# Altium footprint library PcbLib1.PcbLib: 21 footprints (part 1 of 2)
Each footprint in its own frame and in the unit in brackets; x right, y up, seen from the top. Pads: shape width x height; smd on the part's side, far side on the other; paste and mask are expansions set on the pad; w line width, h text height; cw(c..) or ccw(c..) is an arc to the next point about the centre after c.
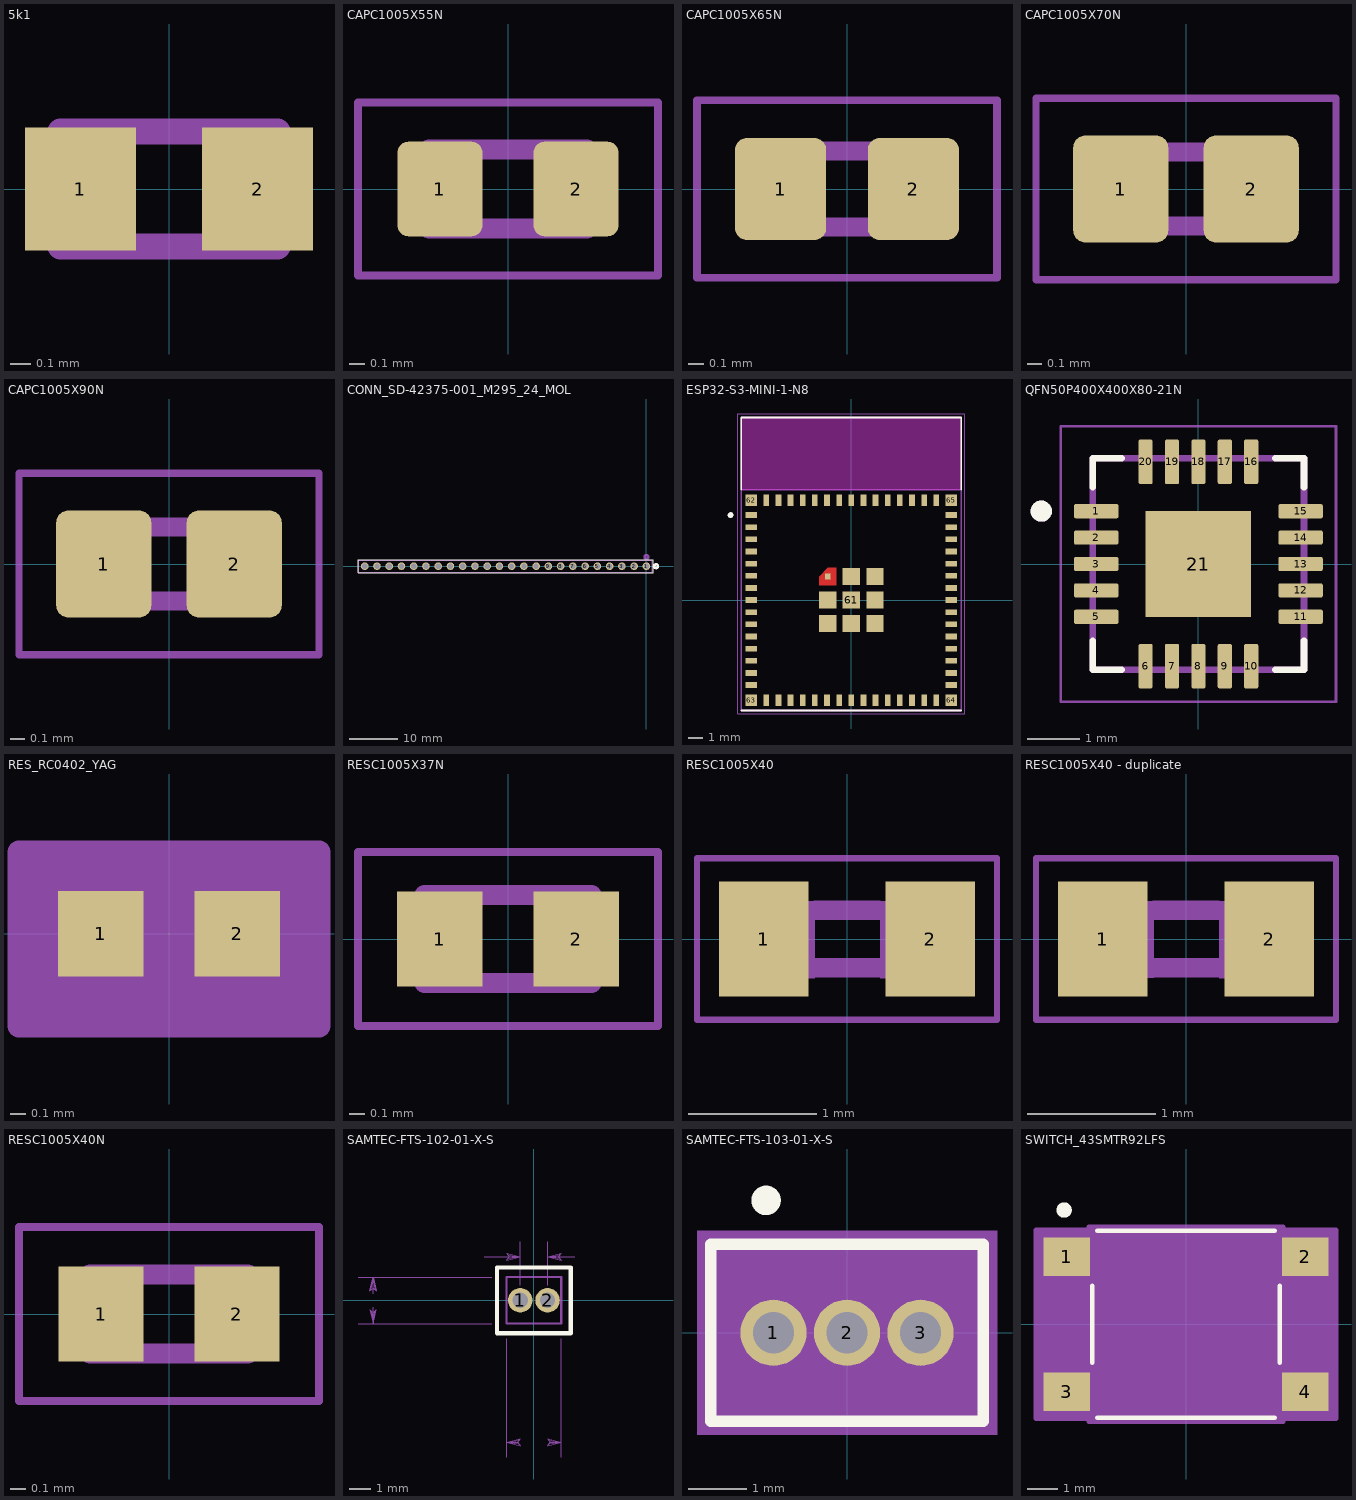
[diagram p0: the footprints below, top view; thin cyan lines are the x and y axes]

## 5k1 [mm]
pads (2):
  rect 0.54x0.6 smd: 1(-0.432,0) 2(0.432,0)
Mechanical 13:
  lines w0.127: -0.53,-0.28 -0.53,0.28 0.53,0.28 0.53,-0.28 -0.53,-0.28
3D body "step_temp.STEP": height 0.37, standoff 0, extent -0.5,-0.25 0.5,0.25

## CAPC1005X55N [mm]
pads (2):
  rrect25% 0.54x0.6 smd: 1(-0.432,0) 2(0.432,0)
Mechanical 13:
  lines w0.127: -0.5,-0.25 0.5,-0.25 0.5,0.25 -0.5,0.25 -0.5,-0.25
Mechanical 15:
  lines w0.05: -0.952,-0.55 0.952,-0.55 0.952,0.55 -0.952,0.55 -0.952,-0.55
3D body "step_temp.STEP": height 0.55, standoff 0, extent -0.5,-0.25 0.5,0.25

## CAPC1005X65N [mm]
pads (2):
  rrect25% 0.6x0.67 smd: 1(-0.437,0) 2(0.437,0)
Mechanical 13:
  lines w0.127: -0.5,-0.25 -0.5,0.25 0.5,0.25 0.5,-0.25 -0.5,-0.25
Mechanical 15:
  lines w0.05: -0.987,-0.585 -0.987,0.585 0.987,0.585 0.987,-0.585 -0.987,-0.585
3D body "step_temp.STEP": height 0.65, standoff 0, extent -0.5,-0.25 0.5,0.25

## CAPC1005X70N [mm]
pads (2):
  rrect25% 0.64x0.72 smd paste+0 mask+0.102: 1(-0.439,0) 2(0.439,0)
Mechanical 13:
  lines w0.127: -0.5,-0.25 -0.5,0.25 0.5,0.25 0.5,-0.25 -0.5,-0.25
Mechanical 15:
  lines w0.05: -1.009,-0.61 -1.009,0.61 1.009,0.61 1.009,-0.61 -1.009,-0.61
3D body "step_temp.STEP": height 0.7, standoff 0, extent -0.5,-0.25 0.5,0.25

## CAPC1005X90N [mm]
pads (2):
  rrect25% 0.64x0.72 smd: 1(-0.439,0) 2(0.439,0)
Mechanical 13:
  lines w0.127: -0.5,-0.25 -0.5,0.25 0.5,0.25 0.5,-0.25 -0.5,-0.25
Mechanical 15:
  lines w0.05: -1.009,-0.61 -1.009,0.61 1.009,0.61 1.009,-0.61 -1.009,-0.61
3D body "step_temp.STEP": height 0.9, standoff 0, extent -0.5,-0.25 0.5,0.25

## CONN_SD-42375-001_M295_24_MOL [mil]
pads (24):
  round 62 hole 42: 1(0,0) 2(-100,0) 3(-200,0) 4(-300,0) 5(-400,0) 6(-500,0) 7(-600,0) 8(-700,0) 9(-800,0) 10(-900,0) 11(-1000,0) 12(-1100,0) 13(-1200,0) 14(-1300,0) 15(-1400,0) 16(-1500,0) 17(-1600,0) 18(-1700,0) 19(-1800,0) 20(-1900,0) 21(-2000,0) 22(-2100,0) 23(-2200,0) 24(-2300,0)
Top Overlay:
  lines w6: -2355,-54 -2355,54 55,54 55,-54 -2355,-54
  lines w20: 65,0 cw(c80,0) 95,0 cw(c80,0) 65,0
Bottom Overlay:
  lines w20: 65,0 cw(c80,0) 95,0 cw(c80,0) 65,0
Mechanical 13:
  lines w6: -2350,-49 -2350,49 50,49 50,-49 -2350,-49
  lines w20: -15,75 cw(c0,75) 15,75 cw(c0,75) -15,75
3D body "022284245.stp": height 387, standoff -118, extent -2350,-48 50,50

## ESP32-S3-MINI-1-N8 [mm]
height 2.55
pads (73):
  rect 0.8x0.4 smd: 1(-7,5.95) 2(-7,5.1) 3(-7,4.25) 4(-7,3.4) 5(-7,2.55) 6(-7,1.7) 7(-7,0.85) 8(-7,0) 9(-7,-0.85) 10(-7,-1.7) 11(-7,-2.55) 12(-7,-3.4) 13(-7,-4.25) 14(-7,-5.1) 15(-7,-5.95) 31(7,-5.95) 32(7,-5.1) 33(7,-4.25) 34(7,-3.4) 35(7,-2.55) 36(7,-1.7) 37(7,-0.85) 38(7,0) 39(7,0.85) 40(7,1.7) 41(7,2.55) 42(7,3.4) 43(7,4.25) 44(7,5.1) 45(7,5.95)
  rect 0.4x0.8 smd: 16(-5.95,-7) 17(-5.1,-7) 18(-4.25,-7) 19(-3.4,-7) 20(-2.55,-7) 21(-1.7,-7) 22(-0.85,-7) 23(0,-7) 24(0.85,-7) 25(1.7,-7) 26(2.55,-7) 27(3.4,-7) 28(4.25,-7) 29(5.1,-7) 30(5.95,-7) 46(5.95,7) 47(5.1,7) 48(4.25,7) 49(3.4,7) 50(2.55,7) 51(1.7,7) 52(0.85,7) 53(0,7) 54(-0.85,7) 55(-1.7,7) 56(-2.55,7) 57(-3.4,7) 58(-4.25,7) 59(-5.1,7) 60(-5.95,7)
  rect 1.2x1.2 smd: 61(0,0) 61_2(0,1.65) 61_3(1.65,1.65) 61_4(1.65,0) 61_5(1.65,-1.65) 61_6(0,-1.65) 61_7(-1.65,-1.65) 61_8(-1.65,0)
  rect 0.4x0.4 smd paste-1 mask+0: 61_1(-1.65,1.65)
  rect 0.8x0.8 smd: 62(-7,7) 63(-7,-7) 64(7,-7) 65(7,7)
Top Layer:
  region: -1.05,1.05 -2.25,1.05 -2.25,1.65 -1.65,2.25 -1.05,2.25
Top Overlay:
  circle w0.2: c-8.45,5.95 r0.1
  lines w0.127: -7.7,-7.725 7.7,-7.725 ; -7.7,7.725 -7.7,12.775 7.7,12.775 7.7,7.725
Top Paste:
  region: -1.05,1.05 -2.25,1.05 -2.25,1.65 -1.65,2.25 -1.05,2.25
Top Solder:
  region: -0.95,0.95 -2.35,0.95 -2.35,1.7 -1.7,2.35 -0.95,2.35
Keep-Out Layer:
  region: 7.7,7.725 -7.7,7.725 -7.7,12.775 7.7,12.775
  region: 7.7,7.725 -7.7,7.725 -7.7,12.775 7.7,12.775
Mechanical 13:
  circle w0.2: c-8.45,5.95 r0.1
  lines w0.127: -7.7,7.725 7.7,7.725 ; -7.7,7.725 -7.7,12.775 7.7,12.775 7.7,7.725 ; -7.7,7.725 -7.7,-7.725 7.7,-7.725 7.7,7.725
Mechanical 15:
  lines w0.05: -7.95,-7.975 7.95,-7.975 7.95,13.025 -7.95,13.025 -7.95,-7.975
3D body "ESP32-S3-MINI-1-N8--3DModel-STEP-510211.STEP": height 2.55, standoff 0, extent -7.7,-7.71 7.7,12.79

## QFN50P400X400X80-21N [mm]
pads (21):
  rrect25% 0.84x0.27 smd: 1(-1.935,1) 2(-1.935,0.5) 3(-1.935,0) 4(-1.935,-0.5) 5(-1.935,-1) 11(1.935,-1) 12(1.935,-0.5) 13(1.935,0) 14(1.935,0.5) 15(1.935,1)
  rrect25% 0.27x0.84 smd: 6(-1,-1.935) 7(-0.5,-1.935) 8(0,-1.935) 9(0.5,-1.935) 10(1,-1.935) 16(1,1.935) 17(0.5,1.935) 18(0,1.935) 19(-0.5,1.935) 20(-1,1.935)
  rect 2x2 smd paste-0.37: 21(0,0)
Top Overlay:
  circle w0.2: c-2.975,1 r0.1
  lines w0.127: -2,-1.455 -2,-2 -1.455,-2 ; -2,1.455 -2,2 -1.455,2 ; 1.455,-2 2,-2 2,-1.455 ; 1.455,2 2,2 2,1.455
Mechanical 13:
  circle w0.2: c-2.975,1 r0.1
  lines w0.127: -2,-2 -2,2 2,2 2,-2 -2,-2
Mechanical 15:
  lines w0.05: -2.605,-2.605 -2.605,2.605 2.605,2.605 2.605,-2.605 -2.605,-2.605
3D body "FT231XQ-R--3DModel-STEP-56544.STEP": height 0.78, standoff -0.02, extent -2,-2 2,2

## RES_RC0402_YAG [mil]
pads (2):
  rect 22x22 smd paste+0 mask+0: 1(-17.5,0) 2(17.5,0)
Mechanical 13:
  lines w1: -20.5,-11 -20.5,11 ; -20.5,-11 -6.5,-11 -6.5,11 -20.5,11 ; -20.5,-11 20.5,-11 ; -20.5,-11 -20.5,11 ; -20.5,11 20.5,11 ; 20.5,-11 6.5,-11 6.5,11 20.5,11 ; 20.5,-11 20.5,11 ; 20.5,-11 20.5,11
Mechanical 15:
  region: 38.5,-23.62 -38.5,-23.62 -38.5,18.38 38.5,18.38
  lines w6: -38.5,-23.62 38.5,-23.62 38.5,21 -38.5,21 -38.5,-23.62
3D body "RES_RC0402_YAG.step": height 15.98, standoff 0, extent -20.51,-10.98 20.51,10.98

## RESC1005X37N [mm]
pads (2):
  rect 0.54x0.6 smd: 1(-0.432,0) 2(0.432,0)
Mechanical 13:
  lines w0.127: -0.53,-0.28 -0.53,0.28 0.53,0.28 0.53,-0.28 -0.53,-0.28
Mechanical 15:
  lines w0.05: -0.95,-0.55 -0.95,0.55 0.95,0.55 0.95,-0.55 -0.95,-0.55
3D body "step_temp.STEP": height 0.37, standoff 0, extent -0.5,-0.25 0.5,0.25

## RESC1005X40 [mm]
pads (2):
  rect 0.7x0.9 smd: 1(-0.65,0) 2(0.65,0)
Mechanical 13:
  region: -0.254,-0.305 -0.555,-0.305 -0.555,0.295 -0.254,0.295
  region: 0.559,-0.305 0.259,-0.305 0.259,0.295 0.559,0.295
  lines w0.152: -0.245,-0.224 0.245,-0.224 ; -0.245,0.224 0.245,0.224
Mechanical 15:
  lines w0.051: -1.173,-0.633 1.173,-0.633 1.173,0.633 -1.173,0.633 -1.173,-0.633
3D body "step_temp.STEP": height 0.4, standoff 0, extent -0.5,-0.25 0.5,0.25

## RESC1005X40 - duplicate [mm]
pads (2):
  rect 0.7x0.9 smd: 1(-0.65,0) 2(0.65,0)
Mechanical 13:
  region: 0.559,-0.305 0.259,-0.305 0.259,0.295 0.559,0.295
  region: -0.254,-0.305 -0.554,-0.305 -0.554,0.295 -0.254,0.295
  lines w0.152: -0.245,-0.224 0.245,-0.224 ; -0.245,0.224 0.245,0.224
Mechanical 15:
  lines w0.051: -1.173,-0.633 -1.173,0.633 1.173,0.633 1.173,-0.633 -1.173,-0.633
3D body "step_temp.STEP": height 0.4, standoff 0, extent -0.5,-0.25 0.5,0.25

## RESC1005X40N [mm]
height 0.4
pads (2):
  rect 0.54x0.6 smd: 1(-0.43,0) 2(0.43,0)
Mechanical 13:
  lines w0.127: -0.5,-0.25 0.5,-0.25 0.5,0.25 -0.5,0.25 -0.5,-0.25
Mechanical 15:
  lines w0.05: -0.95,-0.55 0.95,-0.55 0.95,0.55 -0.95,0.55 -0.95,-0.55
3D body "step_temp.STEP": height 0.4, standoff 0, extent -0.5,-0.25 0.5,0.25

## SAMTEC-FTS-102-01-X-S [mil]
pads (2):
  round 45 hole 27.95: 1(-25,0) 2(25,0)
Top Overlay:
  lines w7.87: -67.72,-60.24 67.72,-60.24 67.72,60.24 -67.72,60.24 -67.72,-60.24
Top Solder:
  circle w0: c25,0 r24.49
  circle w0: c-25,0 r24.49
Bottom Solder:
  circle w0: c25,0 r24.49
  circle w0: c-25,0 r24.49
Mechanical 16:
  lines w3.94: -50,-42.52 0,-42.52 50,-42.52 50,42.52 0,42.52 -50,42.52 -50,-42.52 ; -32.99,-7.99 -17.01,-7.99 -17.01,7.99 -32.99,7.99 -32.99,-7.99 ; 17.01,-7.99 17.01,7.99 32.99,7.99 32.99,-7.99 17.01,-7.99
Mechanical 40:
  lines w0: -322.6,-42.52 -77.6,-42.52 ; -322.6,42.52 -77.6,42.52 ; -295,-12.52 -295,-42.52 ; -295,12.52 -295,42.52 ; -91.5,80 -25,80 ; -50,-287.6 -50,-70.12 ; -33.5,-260 -50,-260 ; -25,27.6 -25,107.6 ; 25,27.6 25,107.6 ; 33.5,-260 50,-260 ; 50,-287.6 50,-70.12 ; 75,80 25,80 ; -301.26,-17.48 -298.11,-20 -295,-42.52 ; -301.26,-17.48 -295,-22.52 ; -301.26,-17.48 -295,-42.52 ; -295,-42.52 -295,-22.52 ; -295,-42.52 -291.89,-20 -295,-22.52 ; -295,-42.52 -288.74,-17.48 -295,-22.52 ; -295,22.52 -295,42.52 ; -295,22.52 -298.11,20 -295,42.52 ; -295,22.52 -288.74,17.48 ; -295,22.52 -301.26,17.48 -295,42.52 ; -295,42.52 -291.89,20 -288.74,17.48 ; -295,42.52 -288.74,17.48 ; -50,-260 -27.48,-256.89 -25,-253.74 ; -50,-260 -30,-260 ; -50,-260 -27.48,-263.11 -30,-260 ; -50,-260 -25,-266.26 -30,-260 ; -50,-260 -25,-253.74 ; -50,73.74 -47.48,76.89 -25,80 ; -50,73.74 -45,80 ; -50,73.74 -25,80 ; -45,80 -25,80 ; -45,80 -47.48,83.11 -25,80 ; -45,80 -50,86.26 -25,80 ; -30,-260 -25,-253.74 ; 25,-266.26 27.48,-263.11 50,-260 ; 25,-266.26 30,-260 ; 25,-266.26 50,-260 ; 25,80 47.48,83.11 50,86.26 ; 25,80 45,80 ; 25,80 47.48,76.89 45,80 ; 25,80 50,73.74 45,80 ; 25,80 50,86.26 ; 30,-260 50,-260 ; 30,-260 27.48,-256.89 50,-260 ; 30,-260 25,-253.74 50,-260 ; 45,80 50,86.26
  text "2.540" at -25.98,-265 h15.5
  text "1.270" at -150.98,75 h15.5
  text "2.159" at -320.98,-5 h15.5
Mechanical 42:
  lines w3.94: -67.72,-60.24 67.72,-60.24 67.72,60.24 -67.72,60.24 -67.72,-60.24
3D body "FTS-102-01-F-S.stp": height 154, standoff -90, extent -50,-45 50,40

## SAMTEC-FTS-103-01-X-S [mil]
pads (3):
  round 45 hole 27.95 mask+0: 1(-50,0) 2(0,0) 3(50,0)
Top Overlay:
  circle w10: c-55,90 r5
  lines w7.87: -92.72,-60.24 -92.72,60.24 92.72,60.24 92.72,-60.24 -92.72,-60.24
Mechanical 13:
  lines w3.94: -92.72,-60.24 -92.72,60.24 92.72,60.24 92.72,-60.24 -92.72,-60.24 ; -75,-42.52 -75,42.52 -25,42.52 25,42.52 75,42.52 75,-42.52 25,-42.52 -25,-42.52 -75,-42.52 ; -57.99,-7.99 -57.99,7.99 -42.01,7.99 -42.01,-7.99 -57.99,-7.99 ; -7.99,-7.99 -7.99,7.99 7.99,7.99 7.99,-7.99 -7.99,-7.99 ; 42.01,-7.99 57.99,-7.99 57.99,7.99 42.01,7.99 42.01,-7.99
Mechanical 15:
  region: 101.97,-69.49 -101.97,-69.49 -101.97,69.49 101.97,69.49
3D body "FTS-103-01-F-S.stp": height 154, standoff -90, extent -75,-43.5 75,41.5

## SWITCH_43SMTR92LFS [mm]
pads (4):
  rect 1.549x1.295 smd paste+0 mask+0: 1(-3.975,2.25) 2(3.975,2.25) 3(-3.975,-2.25) 4(3.975,-2.25)
Top Overlay:
  circle w0.254: c-4.064,3.81 r0.127
  lines w0.152: -3.124,-1.278 -3.124,1.278 ; -2.957,-3.124 2.957,-3.124 ; -2.957,3.124 2.957,3.124 ; 3.124,-1.278 3.124,1.278
Bottom Overlay:
  circle w0.254: c-4.064,3.81 r0.127
Mechanical 13:
  circle w0.254: c-2.54,2.286 r0.127
  circle w0.025: c0,0 r1.753
  lines w0.025: -2.997,-2.997 2.997,-2.997 2.997,2.997 -2.997,2.997 -2.997,-2.997
Mechanical 15:
  region: -3.251,-3.152 -5.004,-3.152 -5.004,3.152 -3.251,3.152 -3.251,3.251 3.251,3.251 3.251,3.152 5.004,3.152 5.004,-3.152 3.251,-3.152 3.251,-3.251 -3.251,-3.251
  lines w0.152: -5.004,-3.152 -5.004,3.152 -3.251,3.152 -3.251,3.251 3.251,3.251 3.251,3.152 5.004,3.152 5.004,-3.152 3.251,-3.152 3.251,-3.251 -3.251,-3.251 -3.251,-3.152 -5.004,-3.152
3D body "PTS645SM43SMTR92LFS.stp": height 4.3, standoff 0, extent -4.5,-3.03 4.5,2.97